# Altium schematic symbol library FullyDigital.SchLib: 55 symbols
Pins are listed as number, name and electrical type; pins without a type are passive.

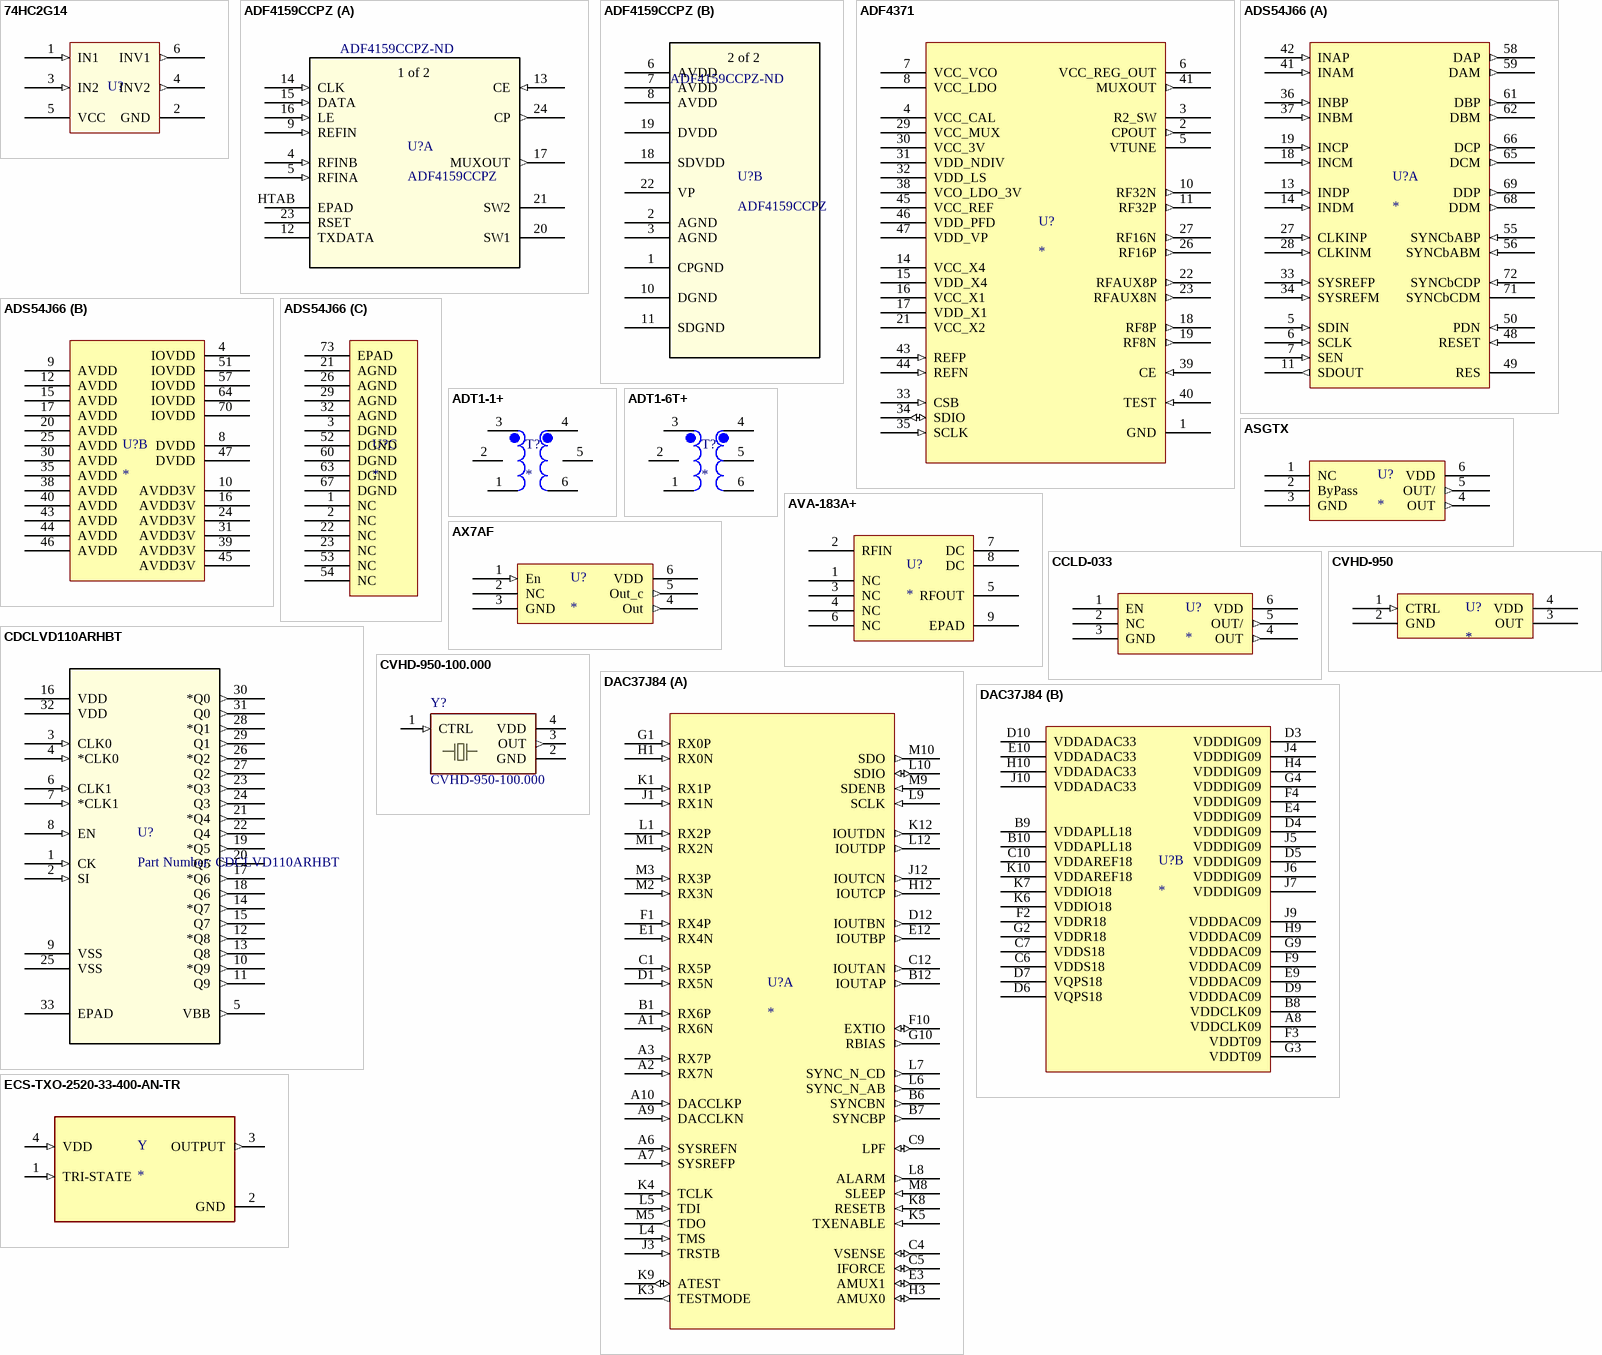
[diagram p0: symbols 74HC2G14 to ECS-TXO-2520-33-400-AN-TR]

## 74HC2G14
designator U?
Inverters Dual inverting Schmitt trigger, 2CH; Part Number: 74HC2G14GV; Manufacturer: Nexperia; Supplier 1: Digikey; Supplier Part Number 1: 1727-74HC2G14GV-Q100HCT-ND
footprint TSOP-6
pins: 1 IN1 (in), 2 GND, 3 IN2 (in), 4 INV2 (out), 5 VCC (power), 6 INV1 (out)

## ADF4159CCPZ
designator U?  Supplier Part Number 1: ADF4159CCPZ-ND
Direct Modulation/Fast Waveform Generating, 13 GHz, Fractional-N Frequency Synthesizer; SourceLibrary: Analog_2015-01-06; Built_By: EMA_UL_Team; Vendor: Analog Devices Inc; Manufacturer_Part_Number: ADF4159CCPZ; Copyright: Copyright (C) 2018 Accelerated Designs. All rights reserved; RefDes: RefDes; Type: DEV; Supplier 1: Digi-Key
footprint CP_24_10_ADI-M (ADF4159CCPZ)
part A pins: 4 RFINB (in), 5 RFINA (in), 9 REFIN (in), 12 TXDATA, 13 CE (in), 14 CLK (in), 15 DATA (in), 16 LE (in), 17 MUXOUT (out), 20 SW1, 21 SW2, 23 RSET, 24 CP (out), HTAB EPAD
part B pins: 1 CPGND (power), 2 AGND (power), 3 AGND (power), 6 AVDD (power), 7 AVDD (power), 8 AVDD (power), 10 DGND (power), 11 SDGND (power), 18 SDVDD (power), 19 DVDD (power), 22 VP (power)
part A text: 1 of 2
part B text: 2 of 2

## ADF4371
designator U?
Microwave  Wideband Synthesizer with Integrated VCO
footprint ADF4371-QFN48 (QFN, 48-Leads, Body 7.00x7.00mm, Pitch 0.50mm, Thermal Pad 6.00x6.00mm, IPC Medium Density); pin to pad 1>1+9+12+13+20+24+25+28+36+37+42+48+49
pins: 1 GND (power), 2 CPOUT (out), 3 R2_SW, 4 VCC_CAL (power), 5 VTUNE, 6 VCC_REG_OUT, 7 VCC_VCO (power), 8 VCC_LDO (power), 10 RF32N (out), 11 RF32P (out), 14 VCC_X4 (power), 15 VDD_X4 (power), 16 VCC_X1 (power), 17 VDD_X1 (power), 18 RF8P (out), 19 RF8N (out), 21 VCC_X2 (power), 22 RFAUX8P (out), 23 RFAUX8N (out), 26 RF16P (out), 27 RF16N (out), 29 VCC_MUX (power), 30 VCC_3V (power), 31 VDD_NDIV (power), 32 VDD_LS (power), 33 CSB (in), 34 SDIO (io), 35 SCLK (in), 38 VCO_LDO_3V (power), 39 CE (in), 40 TEST (in), 41 MUXOUT (out), 43 REFP (in), 44 REFN (in), 45 VCC_REF (power), 46 VDD_PFD (power), 47 VDD_VP (power)

## ADS54J66
designator U?
Quad-Channel, 14-Bit, 500-MSPS ADC with Integrated DDC
footprint ADS54J66-VQFN-72 (QFN, 72-Leads, Body 10.00x10.00mm, Pitch 0.50mm, Thermal Pad 8.50x8.50mm, IPC Medium Density)
part A pins: 5 SDIN (in), 6 SCLK (in), 7 SEN (in), 11 SDOUT (out), 13 INDP (in), 14 INDM (in), 18 INCM (in), 19 INCP (in), 27 CLKINP (in), 28 CLKINM (in), 33 SYSREFP (in), 34 SYSREFM (in), 36 INBP (in), 37 INBM (in), 41 INAM (in), 42 INAP (in), 48 RESET (in), 49 RES, 50 PDN (in), 55 SYNCbABP (in), 56 SYNCbABM (in), 58 DAP (out), 59 DAM (out), 61 DBP (out), 62 DBM (out), 65 DCM (out), 66 DCP (out), 68 DDM (out), 69 DDP (out), 71 SYNCbCDM, 72 SYNCbCDP (in)
part B pins: 4 IOVDD (power), 8 DVDD (power), 9 AVDD (power), 10 AVDD3V (power), 12 AVDD (power), 15 AVDD (power), 16 AVDD3V (power), 17 AVDD (power), 20 AVDD (power), 24 AVDD3V (power), 25 AVDD (power), 30 AVDD (power), 31 AVDD3V (power), 35 AVDD (power), 38 AVDD (power), 39 AVDD3V (power), 40 AVDD (power), 43 AVDD (power), 44 AVDD (power), 45 AVDD3V (power), 46 AVDD (power), 47 DVDD (power), 51 IOVDD (power), 57 IOVDD (power), 64 IOVDD (power), 70 IOVDD (power)
part C pins: 1 NC (power), 2 NC (power), 3 DGND (power), 21 AGND (power), 22 NC (power), 23 NC (power), 26 AGND (power), 29 AGND (power), 32 AGND (power), 52 DGND (power), 53 NC (power), 54 NC (power), 60 DGND (power), 63 DGND (power), 67 DGND (power), 73 EPAD (power)

## ADT1-1+
designator T?
RF Transformer, 50 ohm, 1:1, 0.15-400 MHz, SMT; MP: ADT1-6T+; MF: Mini-Circuits; SnapEDA_Link: https://www.snapeda.com/parts/ADT1-6T+/Mini-Circuits/view-part/948642/?ref=snap; Availability: Unavailable; Price: None; Value: *; Package: None
footprint XFMR_ADT1-1+ (RF Transformer 50ohm 1.0 0.15 to 400 MHz)
pins: 1, 2 NC, 3, 4, 5, 6

## ADT1-6T+
designator T?
RF Transformer, 50 ohm, 1.0: 1, 0.03-125 MHz, SMT; MP: ADT1-6T+; MF: Mini-Circuits; SnapEDA_Link: https://www.snapeda.com/parts/ADT1-6T+/Mini-Circuits/view-part/948642/?ref=snap; Availability: Unavailable; Price: None; Value: *; Package: None
footprint XFMR_ADT1-6T+
pins: 1, 2 NC, 3, 4, 5, 6

## ASGTX
designator U?
Confugurable High Performance SMD TCXO/VCTCXO
footprint ASGTX (6-Leads, Body 9.00x7.00mm, Pitch 2.80mm, IPC Medium Density)
pins: 1 NC, 2 ByPass, 3 GND (power), 4 OUT (out), 5 OUT/ (out), 6 VDD (power)

## AVA-183A+
designator U?
Wideband, Microwave, Monolithic Amplifier, 50Ω, 5 to 18 GHz
footprint AVA-183A+ QFN (QFN66P300X300X89-9N)
pins: 1 NC, 2 RFIN, 3 NC, 4 NC, 5 RFOUT, 6 NC, 7 DC, 8 DC, 9 EPAD

## AX7AF
designator U?
CLEARCLOCK™ | POWER OPTIMIZED 0.12ps 5x7mm XO
footprint AX7XO-8 (AX7 oscilliator, 8-Leads, Body 5.00x7.00mm, IPC Medium Density)
pins: 1 En (in), 2 NC, 3 GND (power), 4 Out (out), 5 Out_c (out), 6 VDD (power)

## CCLD-033
designator U?
CCLD-033 5×7mm SMD / LVDS Clock Oscillator
footprint CCLD-033 (6-Leads, Crystal Oscillator, 7mm x 5mm)
pins: 1 EN, 2 NC, 3 GND (power), 4 OUT (out), 5 OUT/ (out), 6 VDD (power)

## CDCLVD110ARHBT
designator U?, comment Part Number: CDCLVD110ARHBT
CDCLVD110A Programmable Low-Voltage 1:10 LVDS Clock Driver; Manufacturer: Texas Instruments; Built_By: EMA_UL_Team; Manufacturer_Part_Number: CDCLVD110ARHBT; Vendor: Texas Instruments; Copyright: Copyright (C) 2018 Accelerated Designs. All rights reserved; RefDes: RefDes; Type: DEV; Value: Value
footprint QFN33N (QFN, 32-Leads, Body 5.00x5.00mm, Pitch 0.50mm, Thermal Pad 3.15x3.15mm, IPC Medium Density)
pins: 1 CK (in), 2 SI (in), 3 CLK0 (in), 4 *CLK0 (in), 5 VBB (out), 6 CLK1 (in), 7 *CLK1 (in), 8 EN (in), 9 VSS (power), 10 *Q9 (out), 11 Q9 (out), 12 *Q8 (out), 13 Q8 (out), 14 *Q7 (out), 15 Q7 (out), 16 VDD (power), 17 *Q6 (out), 18 Q6 (out), 19 *Q5 (out), 20 Q5 (out), 21 *Q4 (out), 22 Q4 (out), 23 *Q3 (out), 24 Q3 (out), 25 VSS (power), 26 *Q2 (out), 27 Q2 (out), 28 *Q1 (out), 29 Q1 (out), 30 *Q0 (out), 31 Q0 (out), 32 VDD (power), 33 EPAD (power)

## CVHD-950
designator U?
Crystek Ultra-Low Phase Noise / Oscillators
pins: 1 CTRL (in), 2 GND (power), 3 OUT, 4 VDD (power)

## CVHD-950-100.000
designator Y?
Osc Vcxo 100.000mhz Cmos Smd; MF: Crystek; Digi-Key_Part_Number: 744-1213-ND; SnapEDA_Link: https://www.snapeda.com/parts/CVHD-950-100.000/Crystek%20Corporation/view-part/?ref=snap; MP: CVHD-950-100.000; Package: SMD-4 Crystek Crystals; Digi-Key_Purchase_URL: https://www.digikey.com/product-detail/en/crystek-corporation/CVHD-950-100.000/744-1213-ND/1644128?utm_source=snapeda&utm_medium=aggregator&utm_campaign=symbol; Value: *
footprint *OSCSC508P1420X914X530-4N
pins: 1 CTRL (in), 2 GND (power), 3 OUT (out), 4 VDD (power)

## DAC37J84
designator U?
Quad-Channel, 16-Bit, 1.6/2.5 GSPS, Digital-to-Analog Converters with 12.5 Gbps JESD204B Interface
footprint DAC3xJ84-BGA144 (BGA, 144-Leads, Body 10.00x10.00mmx1.94mm, Pitch 0.80mm)
part A pins: A1 RX6N (in), A2 RX7N (in), A3 RX7P (in), A6 SYSREFN (in), A7 SYSREFP (in), A9 DACCLKN (in), A10 DACCLKP (in), B1 RX6P (in), B6 SYNCBN (out), B7 SYNCBP (out), B12 IOUTAP (out), C1 RX5P (in), C4 VSENSE (io), C5 IFORCE (io), C9 LPF (io), C12 IOUTAN (out), D1 RX5N (in), D12 IOUTBN (out), E1 RX4N (in), E3 AMUX1 (io), E12 IOUTBP (out), F1 RX4P (in), F10 EXTIO (io), G1 RX0P (in), G10 RBIAS (out), H1 RX0N (in), H3 AMUX0 (io), H12 IOUTCP (out), J1 RX1N (in), J3 TRSTB (in), J12 IOUTCN (out), K1 RX1P (in), K3 TESTMODE (out), K4 TCLK (in), K5 TXENABLE (in), K8 RESETB (in), K9 ATEST (io), K12 IOUTDN (out), L1 RX2P (in), L4 TMS (in), L5 TDI (in), L6 SYNC_N_AB (out), L7 SYNC_N_CD (out), L8 ALARM (out), L9 SCLK (in), L10 SDIO (io), L12 IOUTDP (out), M1 RX2N (in), M2 RX3N (in), M3 RX3P (in), M5 TDO (out), M8 SLEEP (in), M9 SDENB (in), M10 SDO (out)
part B pins: A8 VDDCLK09 (power), B8 VDDCLK09 (power), B9 VDDAPLL18 (power), B10 VDDAPLL18 (power), C6 VDDS18 (power), C7 VDDS18 (power), C10 VDDAREF18 (power), D3 VDDDIG09 (power), D4 VDDDIG09 (power), D5 VDDDIG09 (power), D6 VQPS18 (power), D7 VQPS18 (power), D9 VDDDAC09 (power), D10 VDDADAC33 (power), E4 VDDDIG09 (power), E9 VDDDAC09 (power), E10 VDDADAC33 (power), F2 VDDR18 (power), F3 VDDT09 (power), F4 VDDDIG09 (power), F9 VDDDAC09 (power), G2 VDDR18 (power), G3 VDDT09 (power), G4 VDDDIG09 (power), G9 VDDDAC09 (power), H4 VDDDIG09 (power), H9 VDDDAC09 (power), H10 VDDADAC33 (power), J4 VDDDIG09 (power), J5 VDDDIG09 (power), J6 VDDDIG09 (power), J7 VDDDIG09 (power), J9 VDDDAC09 (power), J10 VDDADAC33 (power), K6 VDDIO18 (power), K7 VDDIO18 (power), K10 VDDAREF18 (power)

## ECS-TXO-2520-33-400-AN-TR
designator Y
40MHz TCXO HCMOS Oscillator 3.3V Enable/Disable 4-SMD, No Lead; MF: ECS Inc.; MP: ECS-TXO-2520-33-400-AN-TR; Package: SMD-4 ECS International; Value: *; Availability: Unavailable; Price: None; SnapEDA_Link: https://www.snapeda.com/parts/ECS-TXO-2520-33-400-AN-TR/ECS%20Inc./view-part/699443/?ref=snap
footprint OSC_ECS-TXO-2520-33-400-AN-TR (ECS-TXO-2520)
pins: 1 TRI-STATE (in), 2 GND (power), 3 OUTPUT (out), 4 VDD (in)

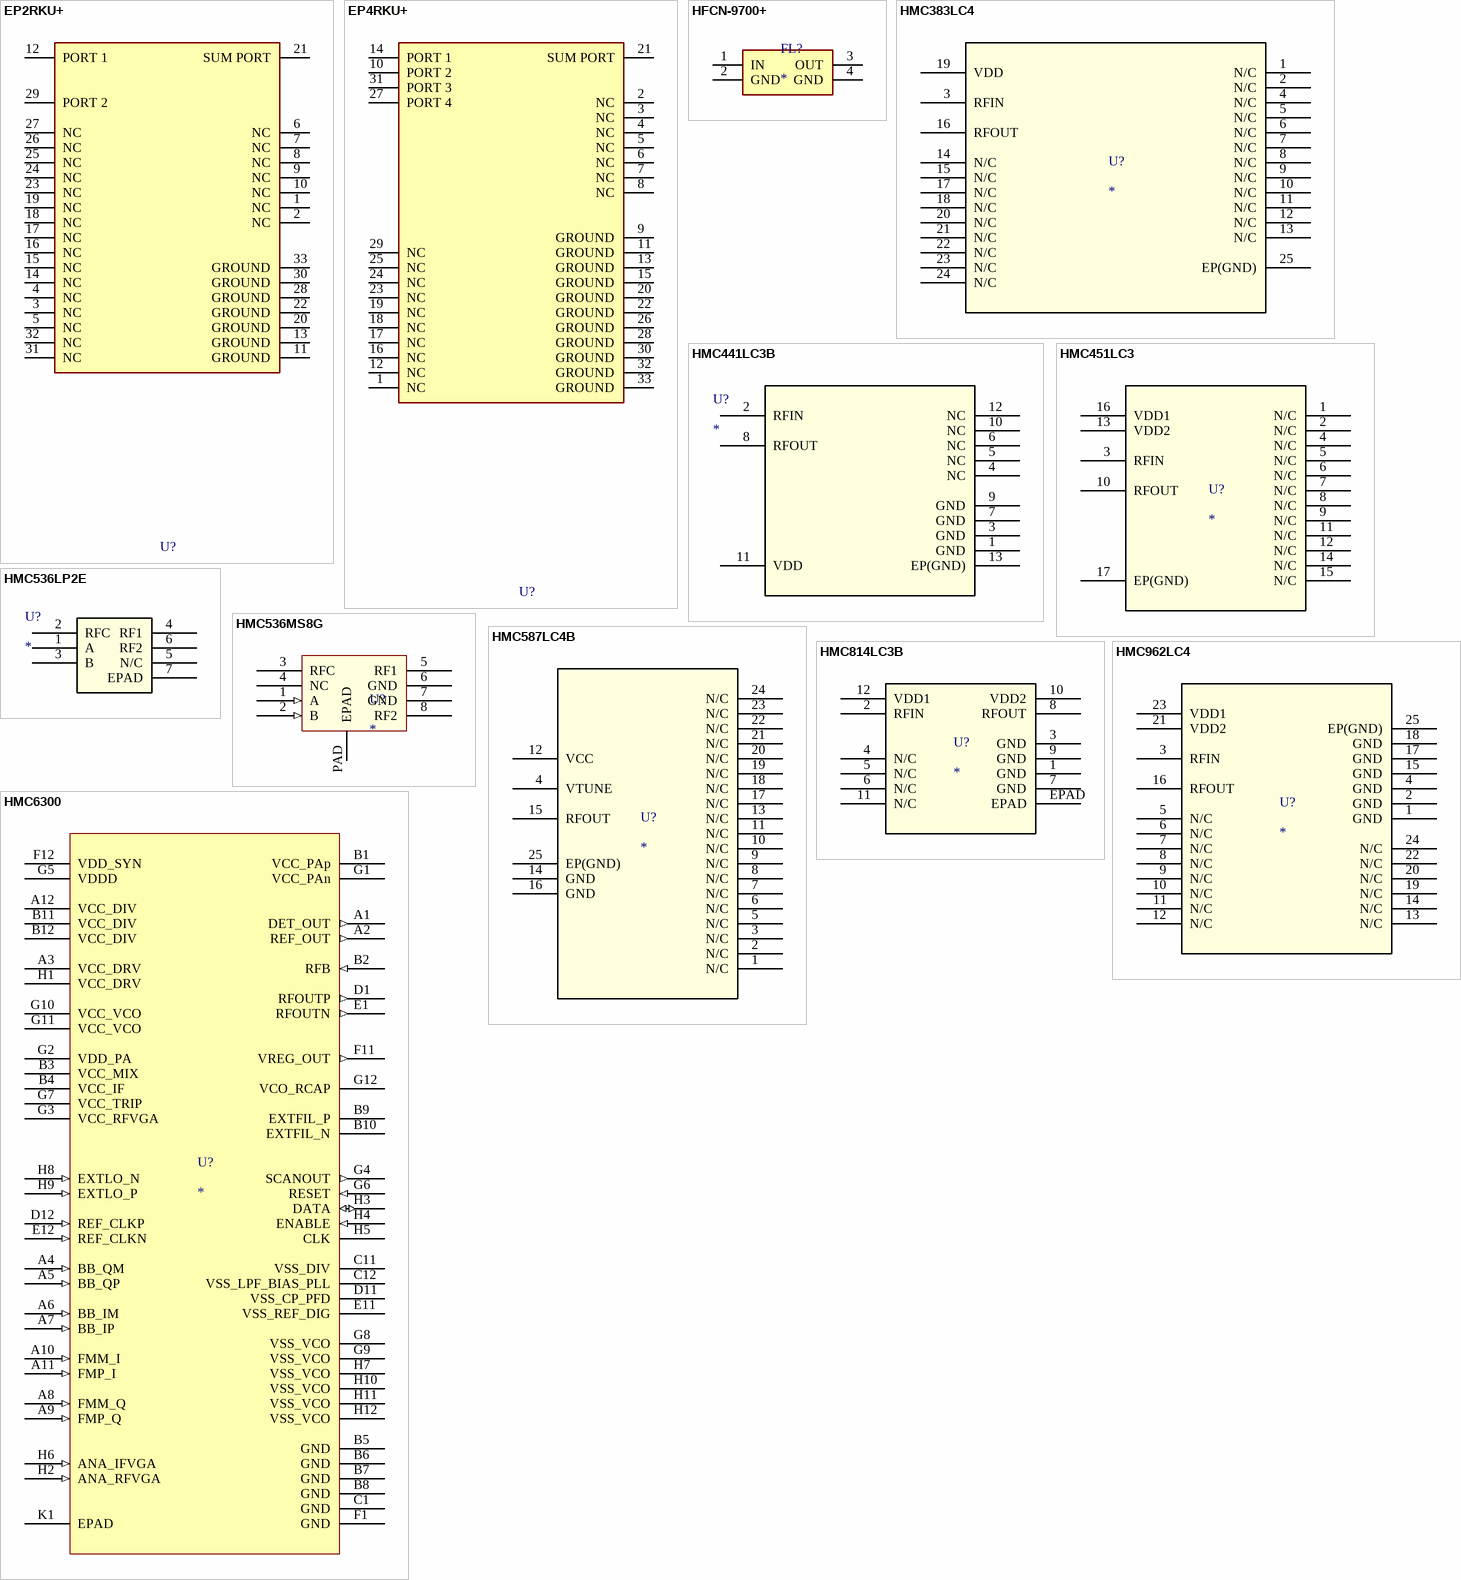
[diagram p1: symbols EP2RKU+ to HMC6300]

## EP2RKU+
designator U?  (value not drawn)
2 Ways MMIC Power Splitter, DC - 18000 MHz, 50Ω; Manufacturer: Mini-Circuits; Part Number: EP2RKU+; Supplier 1: Digikey; Supplier Part Number 1: 3157-EP2RKU+CT-ND
footprint EP2RKU+ (2 Ways MMIC Power Splitter, DC - 18000 MHz, 50?)
pins: 1 NC, 2 NC, 3 NC, 4 NC, 5 NC, 6 NC, 7 NC, 8 NC, 9 NC, 10 NC, 11 GROUND (power), 12 PORT 1, 13 GROUND (power), 14 NC, 15 NC, 16 NC, 17 NC, 18 NC, 19 NC, 20 GROUND (power), 21 SUM PORT, 22 GROUND (power), 23 NC, 24 NC, 25 NC, 26 NC, 27 NC, 28 GROUND, 29 PORT 2, 30 GROUND (power), 31 NC, 32 NC, 33 GROUND (power)

## EP4RKU+
designator U?  (value not drawn)
Power Splitter/Combiner 4 Way-0° 50Ω DC to 18 GHz; Part Number: EP4RKU+; Manufacturer: Mini-Circuits; Supplier 1: Digikey; Supplier Part Number 1: 3157-EP4RKU+CT-ND
footprint EP4RKU+ (DG1677-2)
pins: 1 NC, 2 NC, 3 NC, 4 NC, 5 NC, 6 NC, 7 NC, 8 NC, 9 GROUND (power), 10 PORT 2, 11 GROUND (power), 12 NC, 13 GROUND (power), 14 PORT 1, 15 GROUND (power), 16 NC, 17 NC, 18 NC, 19 NC, 20 GROUND (power), 21 SUM PORT, 22 GROUND (power), 23 NC, 24 NC, 25 NC, 26 GROUND (power), 27 PORT 4, 28 GROUND (power), 29 NC, 30 GROUND (power), 31 PORT 3, 32 GROUND (power), 33 GROUND (power)

## HFCN-9700+
designator FL?
High Pass Filter 50Ω 9700 to 16980 MHz; Manufacturer_Name: Mini-Circuits; Manufacturer_Part_Number: HFCN-9700+; Datasheet Link: https://www.minicircuits.com/pdfs/HFCN-9700+.pdf; Height: 1.0416mm; Mouser Part Number: 139-HFCN-9700; Mouser Price/Stock: https://www.mouser.co.uk/ProductDetail/Mini-Circuits/HFCN-9700%2b?qs=xZ%2FP%252Ba9zWqbwb9Om9u4eNw%3D%3D
footprint HFCN9700 (HFCN9700 4PIN)
pins: 1 IN, 2 GND, 3 OUT, 4 GND

## HMC383LC4
designator U?
GaAs PHEMT MMIC MEDIUM POWER AMPLIFIER, 12 -30 GHz; Value: Value; Type: Type; RefDes: RefDes
footprint HE_24_1 (HMC383LC4 Footprint)
pins: 1 N/C, 2 N/C, 3 RFIN, 4 N/C, 5 N/C, 6 N/C, 7 N/C, 8 N/C, 9 N/C, 10 N/C, 11 N/C, 12 N/C, 13 N/C, 14 N/C, 15 N/C, 16 RFOUT, 17 N/C, 18 N/C, 19 VDD, 20 N/C, 21 N/C, 22 N/C, 23 N/C, 24 N/C, 25 EP(GND)

## HMC441LC3B
designator U?
GaAs pHEMT MMIC MEDIUM POWER AMPLIFIER, 6 - 18 GHz; Copyright: Copyright (C) 2018 Accelerated Designs. All rights reserved; RefDes: RefDes; Type: DEV; Value: Value
footprint PQFN-12 (PQFN, 12-Leads, Body 2.90x2.90mm, Pitch 0.50mm, Thermal Pad 1.50x1.50mm, IPC Medium Density)
pins: 1 GND, 2 RFIN, 3 GND, 4 NC, 5 NC, 6 NC, 7 GND, 8 RFOUT, 9 GND, 10 NC, 11 VDD, 12 NC, 13 EP(GND)

## HMC451LC3
designator U?
GaAs PHEMT MMIC MEDIUM / POWER AMPLIFIER, 5 - 20 GHz; Copyright: Copyright (C) 2018 Accelerated Designs. All rights reserved; RefDes: RefDes; Type: DEV; Value: Value
footprint HMC451_EP_16 (Gaas PHEMT MMIC MEDIUM  POWER AMPLIFIER, 5 - 20 GHz)
pins: 1 N/C, 2 N/C, 3 RFIN, 4 N/C, 5 N/C, 6 N/C, 7 N/C, 8 N/C, 9 N/C, 10 RFOUT, 11 N/C, 12 N/C, 13 VDD2, 14 N/C, 15 N/C, 16 VDD1, 17 EP(GND)

## HMC536LP2E
designator U?
IC RF SWITCH SPDT 6GHZ 6DFN; Manufacturer: Analog Devices; Part Number: HMC536LP2E; Supplier 1: Mouser; Supplier Part Number 1: 584-HMC536LP2E
footprint HMC536LP2E
pins: 1 A, 2 RFC, 3 B, 4 RF1, 5 N/C, 6 RF2, 7 EPAD

## HMC536MS8G
designator U?
RF Switch ICs 3 Watt SPDT T/R Switch SMT, DC - 6 GHz
footprint RH_8_1_ADI
pins: 1 A (in), 2 B (in), 3 RFC, 4 NC, 5 RF1, 6 GND, 7 GND, 8 RF2, PAD EPAD

## HMC587LC4B
designator U?
WIDEBAND MMIC VCO w/ BUFFER / AMPLIFIER, 5 - 10 GHz; Copyright: Copyright (C) 2018 Accelerated Designs. All rights reserved; RefDes: RefDes; Type: DEV
footprint HMC587-PQFN (PQFN, 24-Leads, Body 4.00x4.00mm, Pitch 0.50mm, Thermal Pad 2.50x2.50mm, IPC Medium Density)
pins: 1 N/C, 2 N/C, 3 N/C, 4 VTUNE, 5 N/C, 6 N/C, 7 N/C, 8 N/C, 9 N/C, 10 N/C, 11 N/C, 12 VCC, 13 N/C, 14 GND, 15 RFOUT, 16 GND, 17 N/C, 18 N/C, 19 N/C, 20 N/C, 21 N/C, 22 N/C, 23 N/C, 24 N/C, 25 EP(GND)

## HMC814LC3B
designator U?
SMT GaAs MMIC x2 ACTIVE FREQUENCY / MULTIPLIER, 13 - 24.6 GHz OUTPUT; Manufacturer: Analog Devices; Part Number: HMC814LC3B; RefDes: RefDes; Supplier 1: Mouser; Supplier Part Number 1: 584-HMC814LC3B
footprint HCP_12_1 (HMC814LC3B QFN12); pin to pad EPAD>13
pins: 1 GND, 2 RFIN, 3 GND, 4 N/C, 5 N/C, 6 N/C, 7 GND, 8 RFOUT, 9 GND, 10 VDD2, 11 N/C, 12 VDD1, EPAD

## HMC962LC4
designator U?
GaAs pHEMT MMIC LOW NOISE AMPLIFIER, 7.5 - 26.5 GHz; Copyright: Copyright (C) 2018 Accelerated Designs. All rights reserved; RefDes: RefDes; Type: DEV; Value: Value
footprint HE_24_1 (HMC383LC4 Footprint)
pins: 1 GND, 2 GND, 3 RFIN, 4 GND, 5 N/C, 6 N/C, 7 N/C, 8 N/C, 9 N/C, 10 N/C, 11 N/C, 12 N/C, 13 N/C, 14 N/C, 15 GND, 16 RFOUT, 17 GND, 18 GND, 19 N/C, 20 N/C, 21 VDD2, 22 N/C, 23 VDD1, 24 N/C, 25 EP(GND)

## HMC6300
designator U?
60 GHz Millimeterwave Transmitter, 57GHz to 64 GHz
footprint HMC6300-WLBGA-65 (BGA, 65-Leads, Body 6.00x4.00mmx0.82mm, Pitch 0.50mm)
pins: A1 DET_OUT (out), A2 REF_OUT (out), A3 VCC_DRV (power), A4 BB_QM (in), A5 BB_QP (in), A6 BB_IM (in), A7 BB_IP (in), A8 FMM_Q (in), A9 FMP_Q (in), A10 FMM_I (in), A11 FMP_I (in), A12 VCC_DIV (power), B1 VCC_PAp (power), B2 RFB (in), B3 VCC_MIX (power), B4 VCC_IF (power), B5 GND (power), B6 GND (power), B7 GND (power), B8 GND (power), B9 EXTFIL_P, B10 EXTFIL_N, B11 VCC_DIV (power), B12 VCC_DIV (power), C1 GND (power), C11 VSS_DIV (power), C12 VSS_LPF_BIAS_PLL (power), D1 RFOUTP (out), D11 VSS_CP_PFD (power), D12 REF_CLKP (in), E1 RFOUTN (out), E11 VSS_REF_DIG (power), E12 REF_CLKN (in), F1 GND (power), F11 VREG_OUT (out), F12 VDD_SYN (power), G1 VCC_PAn (power), G2 VDD_PA (power), G3 VCC_RFVGA (power), G4 SCANOUT (out), G5 VDDD (power), G6 RESET (in), G7 VCC_TRIP (power), G8 VSS_VCO (power), G9 VSS_VCO (power), G10 VCC_VCO (power), G11 VCC_VCO (power), G12 VCO_RCAP, H1 VCC_DRV (power), H2 ANA_RFVGA (in), H3 DATA (io), H4 ENABLE (in), H5 CLK, H6 ANA_IFVGA (in), H7 VSS_VCO (power), H8 EXTLO_N (in), H9 EXTLO_P (in), H10 VSS_VCO (power), H11 VSS_VCO (power), H12 VSS_VCO (power), K1 EPAD (power)

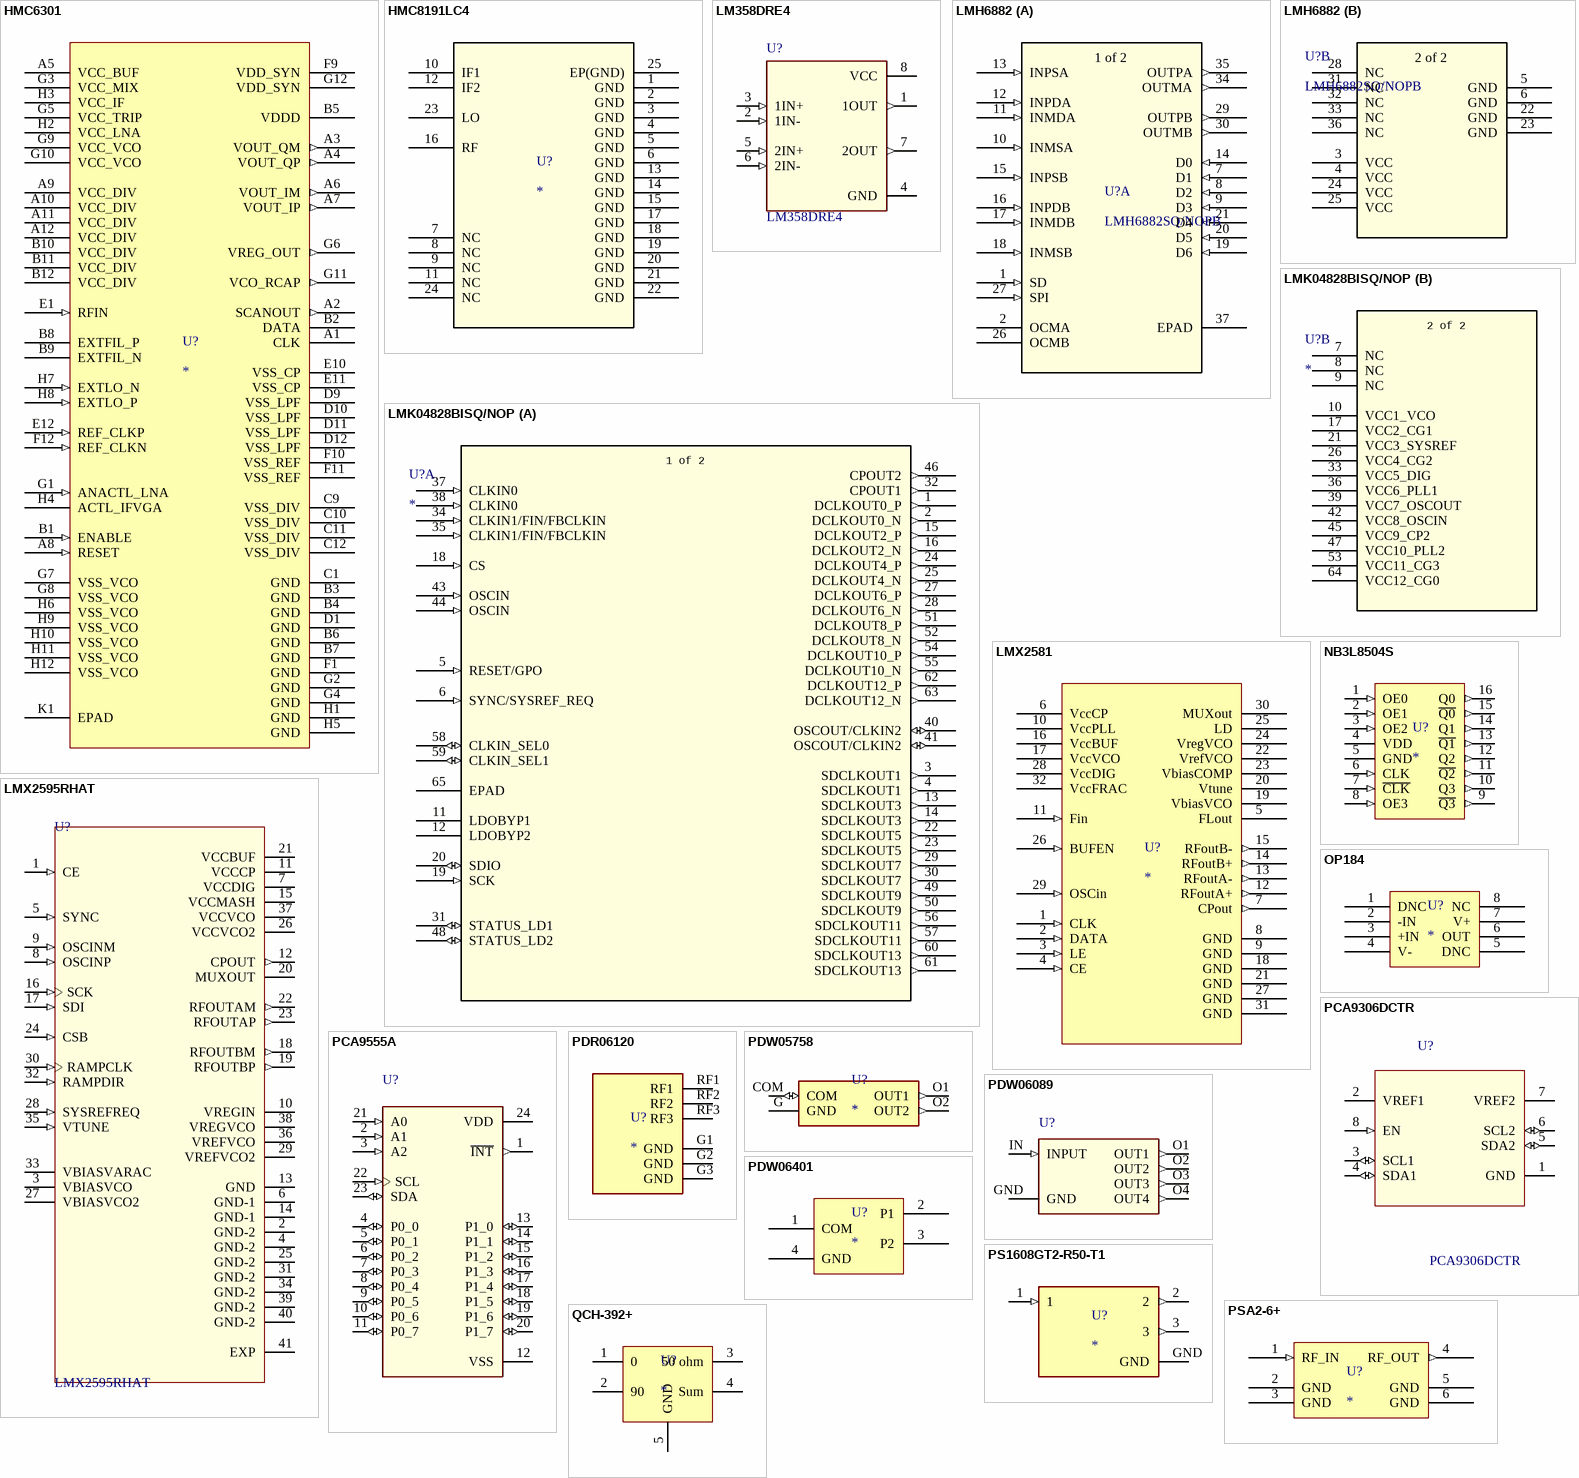
[diagram p2: symbols HMC6301 to QCH-392+]

## HMC6301
designator U?
Millimeterwave Receiver, 57GHz to 64 GHz
footprint HMC6301-WLBGA-75 (BGA, 75-Leads, Body 6.00x4.00mmx0.82mm, Pitch 0.50mm)
pins: A1 CLK, A2 SCANOUT (out), A3 VOUT_QM (out), A4 VOUT_QP (out), A5 VCC_BUF (power), A6 VOUT_IM (out), A7 VOUT_IP (out), A8 RESET (in), A9 VCC_DIV (power), A10 VCC_DIV (power), A11 VCC_DIV (power), A12 VCC_DIV (power), B1 ENABLE (in), B2 DATA, B3 GND (power), B4 GND (power), B5 VDDD (power), B6 GND (power), B7 GND (power), B8 EXTFIL_P, B9 EXTFIL_N, B10 VCC_DIV (power), B11 VCC_DIV (power), B12 VCC_DIV (power), C1 GND (power), C9 VSS_DIV (power), C10 VSS_DIV (power), C11 VSS_DIV (power), C12 VSS_DIV (power), D1 GND (power), D9 VSS_LPF (power), D10 VSS_LPF (power), D11 VSS_LPF (power), D12 VSS_LPF (power), E1 RFIN (in), E10 VSS_CP (power), E11 VSS_CP (power), E12 REF_CLKP (in), F1 GND (power), F9 VDD_SYN (power), F10 VSS_REF (power), F11 VSS_REF (power), F12 REF_CLKN (in), G1 ANACTL_LNA (in), G2 GND (power), G3 VCC_MIX (power), G4 GND (power), G5 VCC_TRIP (power), G6 VREG_OUT (out), G7 VSS_VCO (power), G8 VSS_VCO (power), G9 VCC_VCO (power), G10 VCC_VCO (power), G11 VCO_RCAP (out), G12 VDD_SYN (power), H1 GND (power), H2 VCC_LNA (power), H3 VCC_IF (power), H4 ACTL_IFVGA (power), H5 GND (power), H6 VSS_VCO (power), H7 EXTLO_N (in), H8 EXTLO_P (in), H9 VSS_VCO (power), H10 VSS_VCO (power), H11 VSS_VCO (power), H12 VSS_VCO (power), K1 EPAD (power)

## HMC8191LC4
designator U?
6 GHz to 26.5 GHz, / Wideband I/Q Mixer; Part Number: HMC8191LC4; Manufacturer: Analog Devices; RefDes: RefDes; Supplier 1: Mouser; Supplier Part Number 1: 584-HMC8191LC4
footprint HMC8191_E-24-1
pins: 1 GND, 2 GND, 3 GND, 4 GND, 5 GND, 6 GND, 7 NC, 8 NC, 9 NC, 10 IF1, 11 NC, 12 IF2, 13 GND, 14 GND, 15 GND, 16 RF, 17 GND, 18 GND, 19 GND, 20 GND, 21 GND, 22 GND, 23 LO, 24 NC, 25 EP(GND)

## LM358DRE4
designator U?
General Purpose Amplifier 2 Circuit 8-SOIC; MF: Texas Instruments; SnapEDA_Link: https://www.snapeda.com/parts/LM358DRE4/Texas%20Instruments/view-part/544216/?ref=snap; Digi-Key_Purchase_URL: https://www.digikey.com/product-detail/en/texas-instruments/LM358DRE4/296-35907-1-ND/4135077?utm_source=snapeda&utm_medium=aggregator&utm_campaign=symbol; Digi-Key_Part_Number: 296-35907-1-ND; MP: LM358DRE4; Package: SOIC-8 Texas Instruments; Value: *
footprint SOIC-8N (LM358)
pins: 1 1OUT (out), 2 1IN- (in), 3 1IN+ (in), 4 GND (power), 5 2IN+ (in), 6 2IN- (in), 7 2OUT (out), 8 VCC (power)

## LMH6882
designator U?, comment LMH6882SQ/NOPB
LMH6882 DC to 2.4-GHz, High-Linearity, Dual, Programmable Differential Amplifier; SourceLibrary: TI_2017-02-16; Built_By: EMA_UL_Team; Vendor: Texas Instruments; Manufacturer_Part_Number: LMH6882SQ/NOPB; Copyright: Copyright (C) 2018 Accelerated Designs. All rights reserved; RefDes: RefDes; Type: DEV
footprint NJK36_TEX
part A pins: 1 SD (in), 2 OCMA, 7 D1 (in), 8 D2 (in), 9 D3 (in), 10 INMSA (in), 11 INMDA (in), 12 INPDA (in), 13 INPSA (in), 14 D0 (in), 15 INPSB (in), 16 INPDB (in), 17 INMDB (in), 18 INMSB (in), 19 D6 (in), 20 D5 (in), 21 D4 (in), 26 OCMB, 27 SPI (in), 29 OUTPB (out), 30 OUTMB (out), 34 OUTMA (out), 35 OUTPA (out), 37 EPAD
part B pins: 3 VCC (power), 4 VCC (power), 5 GND (power), 6 GND (power), 22 GND (power), 23 GND (power), 24 VCC (power), 25 VCC (power), 28 NC, 31 NC, 32 NC, 33 NC, 36 NC
part A text: 1 of 2
part B text: 2 of 2

## LMK04828BISQ/NOP
designator U?
Ultra Low-Noise JESD204B Compliant Clock Jitter Cleaner with Dual Loop PLLs; Manufacturer_Part_Number: LMK04828BISQ/NOPB; Built_By: EMA_UL_Team; Vendor: Texas Instruments; RefDes: RefDes; Type: DEV; Value: Value
footprint NKD64
part A pins: 1 DCLKOUT0_P (out), 2 DCLKOUT0_N (out), 3 SDCLKOUT1 (out), 4 SDCLKOUT1 (out), 5 RESET/GPO (in), 6 SYNC/SYSREF_REQ (in), 11 LDOBYP1, 12 LDOBYP2, 13 SDCLKOUT3 (out), 14 SDCLKOUT3 (out), 15 DCLKOUT2_P (out), 16 DCLKOUT2_N (out), 18 CS (in), 19 SCK (in), 20 SDIO (io), 22 SDCLKOUT5 (out), 23 SDCLKOUT5 (out), 24 DCLKOUT4_P (out), 25 DCLKOUT4_N (out), 27 DCLKOUT6_P (out), 28 DCLKOUT6_N (out), 29 SDCLKOUT7 (out), 30 SDCLKOUT7 (out), 31 STATUS_LD1 (io), 32 CPOUT1 (out), 34 CLKIN1/FIN/FBCLKIN (in), 35 CLKIN1/FIN/FBCLKIN (in), 37 CLKIN0 (in), 38 CLKIN0 (in), 40 OSCOUT/CLKIN2 (io), 41 OSCOUT/CLKIN2 (io), 43 OSCIN (in), 44 OSCIN (in), 46 CPOUT2 (out), 48 STATUS_LD2 (io), 49 SDCLKOUT9 (out), 50 SDCLKOUT9 (out), 51 DCLKOUT8_P (out), 52 DCLKOUT8_N (out), 54 DCLKOUT10_P (out), 55 DCLKOUT10_N (out), 56 SDCLKOUT11 (out), 57 SDCLKOUT11 (out), 58 CLKIN_SEL0 (io), 59 CLKIN_SEL1 (io), 60 SDCLKOUT13 (out), 61 SDCLKOUT13 (out), 62 DCLKOUT12_P (out), 63 DCLKOUT12_N (out), 65 EPAD
part B pins: 7 NC, 8 NC, 9 NC, 10 VCC1_VCO (power), 17 VCC2_CG1 (power), 21 VCC3_SYSREF (power), 26 VCC4_CG2 (power), 33 VCC5_DIG (power), 36 VCC6_PLL1 (power), 39 VCC7_OSCOUT (power), 42 VCC8_OSCIN (power), 45 VCC9_CP2 (power), 47 VCC10_PLL2 (power), 53 VCC11_CG3 (power), 64 VCC12_CG0 (power)
part A text: 1 of 2
part B text: 2 of 2

## LMX2581
designator U?
Wideband Frequency Synthesizer with Integrated VCO
footprint LMX2581 (PQFN, 32-Leads, Body 5.00x5.00mm, Pitch 0.50mm, Thermal Pad 3.10x3.10mm, IPC Medium Density)
pins: 1 CLK (in), 2 DATA (in), 3 LE (in), 4 CE (in), 5 FLout, 6 VccCP (power), 7 CPout (out), 8 GND (power), 9 GND (power), 10 VccPLL (power), 11 Fin (in), 12 RFoutA+ (out), 13 RFoutA- (out), 14 RFoutB+ (out), 15 RFoutB- (out), 16 VccBUF (power), 17 VccVCO (power), 18 GND (power), 19 VbiasVCO, 20 Vtune, 21 GND (power), 22 VrefVCO, 23 VbiasCOMP, 24 VregVCO, 25 LD, 26 BUFEN (in), 27 GND (power), 28 VccDIG (power), 29 OSCin (in), 30 MUXout, 31 GND (power), 32 VccFRAC (power)

## LMX2595RHAT
designator U?
10 MHz - 19 GHz Wideband RF Synthesizer with Phase Synchronization and JESD204B support 40-VQFN -40 to 85; MF: Texas Instruments; Digi-Key_Part_Number: 296-47001-1-ND; MP: LMX2595RHAT; SnapEDA_Link: https://www.snapeda.com/parts/LMX2595RHAT/Texas%20Instruments/view-part/?ref=snap; Package: VQFN-40 Texas Instruments; Digi-Key_Purchase_URL: https://www.digikey.com/product-detail/en/texas-instruments/LMX2595RHAT/296-47001-1-ND/7427008?utm_source=snapeda&utm_medium=aggregator&utm_campaign=symbol; Value: *
footprint LMX2595RHAT (LMX2595 RF Synthesizer)
pins: 1 CE (in), 2 GND-2 (power), 3 VBIASVCO, 4 GND-2 (power), 5 SYNC (in), 6 GND-1 (power), 7 VCCDIG (power), 8 OSCINP (in), 9 OSCINM (in), 10 VREGIN, 11 VCCCP (power), 12 CPOUT (out), 13 GND (power), 14 GND-1 (power), 15 VCCMASH (power), 16 SCK (in), 17 SDI (in), 18 RFOUTBM (out), 19 RFOUTBP (out), 20 MUXOUT, 21 VCCBUF (power), 22 RFOUTAM (out), 23 RFOUTAP (out), 24 CSB (in), 25 GND-2 (power), 26 VCCVCO2 (power), 27 VBIASVCO2, 28 SYSREFREQ (in), 29 VREFVCO2, 30 RAMPCLK (in), 31 GND-2 (power), 32 RAMPDIR (in), 33 VBIASVARAC, 34 GND-2 (power), 35 VTUNE (in), 36 VREFVCO, 37 VCCVCO (power), 38 VREGVCO, 39 GND-2 (power), 40 GND-2 (power), 41 EXP (power)

## NB3L8504S
designator U?
2.5 V / 3.3 V 1:4 Differential / Input to LVDS Fanout Buffer / / Translator
footprint TSOP16 (TSOP, 16-Leads, Body 5.00x4.40mm, Pitch 0.65mm, IPC Medium Density)
pins: 1 OE0 (in), 2 OE1 (in), 3 OE2 (in), 4 VDD (power), 5 GND (power), 6 CLK (in), 7 ~{CLK} (in), 8 OE3 (in), 9 ~{Q3} (out), 10 Q3 (out), 11 ~{Q2} (out), 12 Q2 (out), 13 ~{Q1} (out), 14 Q1 (out), 15 ~{Q0} (out), 16 Q0 (out)

## OP184
designator U?
Precision Rail-to-Rail / Input and Output Operational Amplifier
footprint OP184-SOIC-8N (SOIC, 8-Leads, Body 4.90x3.90mm, Pitch 1.27mm, IPC Medium Density)
pins: 1 DNC, 2 -IN, 3 +IN, 4 V-, 5 DNC, 6 OUT, 7 V+, 8 NC

## PCA9306DCTR
designator U?
Voltage Level Translator Bidirectional 1 Circuit 2 Channel SM8 _SSOP_; MF: Texas Instruments; Availability: Unavailable; SnapEDA_Link: https://www.snapeda.com/parts/PCA9306DCTR/Texas%20Instruments/view-part/39062/?ref=snap; Price: None; Package: LSSOP-8 Texas Instruments; MP: PCA9306DCTR; Value: *
footprint SOP8N (PCA9306DCTR)
pins: 1 GND, 2 VREF1 (power), 3 SCL1 (io), 4 SDA1 (io), 5 SDA2 (io), 6 SCL2 (io), 7 VREF2 (power), 8 EN (in)

## PCA9555A
designator U?
Low-voltage 16-bit I2C-bus I/O port with interrupt and / weak pull-up; MP: PCA9555APW,118; MF: NXP USA; Package: TSSOP-24 NXP Semiconductors; Digi-Key_Purchase_URL: https://www.digikey.com/product-detail/en/nxp-usa-inc/PCA9555APW,118/568-9919-1-ND/3677045?utm_source=snapeda&utm_medium=aggregator&utm_campaign=symbol; Digi-Key_Part_Number: 568-9919-1-ND; SnapEDA_Link: https://www.snapeda.com/parts/PCA9555APW%2C118/NXP%20USA%20Inc./view-part/482314/?ref=snap; Value: *
footprint PQFN25N (PQFN, 24-Leads, Body 4.00x4.00mm, Pitch 0.50mm, Thermal Pad 1.89x1.89mm, IPC Medium Density)
pins: 1 ~{INT} (out), 2 A1 (in), 3 A2 (in), 4 P0_0 (io), 5 P0_1 (io), 6 P0_2 (io), 7 P0_3 (io), 8 P0_4 (io), 9 P0_5 (io), 10 P0_6 (io), 11 P0_7 (io), 12 VSS (power), 13 P1_0 (io), 14 P1_1 (io), 15 P1_2 (io), 16 P1_3 (io), 17 P1_4 (io), 18 P1_5 (io), 19 P1_6 (io), 20 P1_7 (io), 21 A0 (in), 22 SCL (in), 23 SDA (io), 24 VDD (power)

## PDR06120
designator U?
RF Power Divider 0Hz ~ 40GHz 20dB Return Loss Module; MF: Knowles Dielectric Labs; MP: PDR06120; Check_prices: https://www.snapeda.com/parts/PDR06120/Knowles%20Dielectric%20Labs/view-part/6388534/?ref=eda; SnapEDA_Link: https://www.snapeda.com/parts/PDR06120/Knowles%20Dielectric%20Labs/view-part/6388534/?ref=snap; Availability: In Stock; Price: None; Value: *; Package: Module Knowles Dielectric Labs; Purchase-URL: https://pricing.snapeda.com/search/part/PDR06120/?ref=eda
footprint MODULE_PDR06120
pins: G1 GND (power), G2 GND (power), G3 GND (power), RF1, RF2, RF3

## PDW05758
designator U?
RF Power Divider 6GHz ~ 18GHz Isolation (Typ) 20dB, 20dB Return Loss, 3Â° Imbalance (Max) Module; MP: PDW05758; MF: Knowles Dielectric; Availability: Warning; Purchase-URL: https://pricing.snapeda.com/search/part/PDW05758/?ref=eda; SnapEDA_Link: https://www.snapeda.com/parts/PDW05758/Knowles%20Dielectric%20Labs/view-part/2781886/?ref=snap; Price: None; Package: Knowles Dielectric; Value: *; Check_prices: https://www.snapeda.com/parts/PDW05758/Knowles%20Dielectric%20Labs/view-part/2781886/?ref=eda
footprint CONV_PDW05758 (6 to 18 GHz Wilkinson  Power Divider)
pins: COM (io), G GND, O1 OUT1 (out), O2 OUT2 (out)

## PDW06089
designator U?  (value not drawn)
6-18ghz 4-Way Wilkinson Pwr Di; MF: Knowles Dielectric; SnapEDA_Link: https://www.snapeda.com/parts/PDW06089/Knowles%20Dielectric%20Labs/view-part/?ref=snap; Availability: Unavailable; Package: Module Knowles; MP: PDW06089; Price: None; Value: *
footprint PDW06089 (6-18GHz 4-way Wilkinson Power Divider)
pins: GND, IN INPUT (in), O1 OUT1 (out), O2 OUT2 (out), O3 OUT3 (out), O4 OUT4 (out)

## PDW06401
designator U?
16GHz 2-way Wilkinson Power Divider
footprint PDW06401 (PDW06401 Wilkinson Power Divider Footprint)
pins: 1 COM, 2 P1, 3 P2, 4 GND

## PS1608GT2-R50-T1
designator U?
RF Power Divider 0 Hz ~ 20 GHz - 0603 (1608 Metric); MP: PS1608GT2-R50-T1; MF: Susumu; Availability: In Stock; Package: 0603 Susumu; Check_prices: https://www.snapeda.com/parts/PS1608GT2-R50-T1/Susumu/view-part/?ref=eda; Price: None; SnapEDA_Link: https://www.snapeda.com/parts/PS1608GT2-R50-T1/Susumu/view-part/?ref=snap; Value: *; Purchase-URL: https://pricing.snapeda.com/search/part/PS1608GT2-R50-T1/?ref=eda
footprint CONV_PS1608GT2-R50-T1
pins: 1 (in), 2 (out), 3 (out), GND (power)

## PSA2-6+
designator U?
SMT MMIC, Linear, Gain Block Amplifier, DC to 7000 MHz, 50Ω, SOT-363 Style Package; Part Number: PSA2-6+; Manufacturer: Mini-Circuits; Supplier 1: Mouser; Supplier Part Number 1: 139-PSA2-6+
footprint PSA2-6+ SOT-363 (SMT MMIC, Linear, Gain Block Amplifier, DC to 7000 MHz, 50Ω, SOT-363 Style Package)
pins: 1 RF_IN (in), 2 GND, 3 GND, 4 RF_OUT (out), 5 GND, 6 GND

## QCH-392+
designator U?
2 Way-90° Power Splitter
footprint QCH-392+ (2 Way-90° Power Splitter)
pins: 1 0, 2 90, 3 50 ohm, 4 Sum, 5 GND

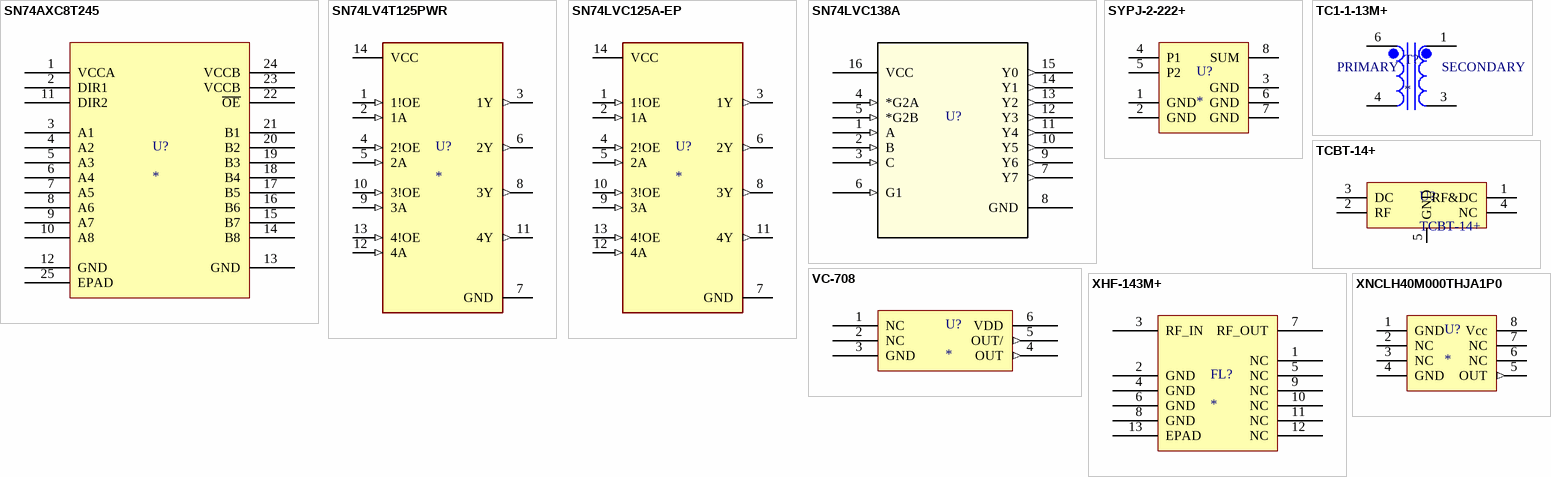
[diagram p3: symbols SN74AXC8T245 to XNCLH40M000THJA1P0]

## SN74AXC8T245
designator U?
SN74AXC8T245 8-Bit Dual-Supply Bus Transceiver With Configurable Voltage Translation / and Tri-State Outputs
footprint RHL0024A (SN74AXC8T245 8-Bit Dual-Supply Bus Transceiver With Configurable Voltage Translation  and Tri-State Outputs)
pins: 1 VCCA, 2 DIR1, 3 A1, 4 A2, 5 A3, 6 A4, 7 A5, 8 A6, 9 A7, 10 A8, 11 DIR2, 12 GND, 13 GND, 14 B8, 15 B7, 16 B6, 17 B5, 18 B4, 19 B3, 20 B2, 21 B1, 22 ~{OE}, 23 VCCB, 24 VCCB, 25 EPAD

## SN74LV4T125PWR
designator U?
Buffer, Non-Inverting 4 Element 1 Bit per Element 3-State Output 14-TSSOP; MP: SN74LV4T125RGYR; Price: None; Package: None; Availability: Unavailable; Value: *
footprint SN74LV4T125PWR (SOP65P640X120-14N)
pins: 1 1!OE (in), 2 1A (in), 3 1Y (out), 4 2!OE (in), 5 2A (in), 6 2Y (out), 7 GND (power), 8 3Y (out), 9 3A (in), 10 3!OE (in), 11 4Y (out), 12 4A (in), 13 4!OE (in), 14 VCC (power)

## SN74LVC125A-EP
designator U?
Enhanced product 4-ch, 1.65-V to 3.6-V buffers with 3-state outputs 14-TSSOP; MP: SN74LV4T125RGYR; Price: None; Package: None; Availability: Unavailable; Value: *
footprint SN74LVC125AIPWREP (TSSOP – PW)
pins: 1 1!OE (in), 2 1A (in), 3 1Y (out), 4 2!OE (in), 5 2A (in), 6 2Y (out), 7 GND (power), 8 3Y (out), 9 3A (in), 10 3!OE (in), 11 4Y (out), 12 4A (in), 13 4!OE (in), 14 VCC (power)

## SN74LVC138A
designator U?
SN74LVC138A 3-Line to 8-Line Decoders Demultiplexers; Manufacturer: Texas Instruments; Manufacturer_Part_Number: SN74HC138PWR; Built_By: EMA_UL_Team; Vendor: Texas Instruments; Copyright: Copyright (C) 2018 Accelerated Designs. All rights reserved; RefDes: RefDes; Type: DEV; Value: Value
footprint TSOP16 (TSOP, 16-Leads, Body 5.00x4.40mm, Pitch 0.65mm, IPC Medium Density)
pins: 1 A (in), 2 B (in), 3 C (in), 4 *G2A (in), 5 *G2B (in), 6 G1 (in), 7 Y7 (out), 8 GND (power), 9 Y6 (out), 10 Y5 (out), 11 Y4 (out), 12 Y3 (out), 13 Y2 (out), 14 Y1 (out), 15 Y0 (out), 16 VCC (power)

## SYPJ-2-222+
designator U?
Power Splitter/Combiner 2 Way-180° 50Ω 500 to 2250 MHz
footprint SYPJ-2-222+ (Power Splitter/Combiner, 2 Way-180° 50O 500 to 2250 MHz)
pins: 1 GND, 2 GND, 3 GND, 4 P1, 5 P2, 6 GND, 7 GND, 8 SUM

## TC1-1-13M+
designator T?
Transformer 50Ω 4.5 to 3000 MHz; MF: Mini-Circuits; MP: TC1-1-13M+; Price: None; Package: None; SnapEDA_Link: https://www.snapeda.com/parts/TC1-1-13M%2B/Mini-Circuits/view-part/105812/?ref=snap; Value: *; Availability: Unavailable
footprint XFMR_TC1-1-13M+
pins: 1, 3, 4, 6
text: PRIMARY; SECONDARY

## TCBT-14+
designator U?
Bias Tee 50Ω Wideband 10 MHz to 10 GHz
footprint TCBT-14+ (TCBT-14+, 5-Leads, Body 3.81x3.81mm)
pins: 1 RF&DC, 2 RF, 3 DC, 4 NC, 5 GND

## VC-708
designator U?
Quartz stabilized, low phase noise, di! erential output oscillator
footprint VC-708 (6-Leads, Crystal Oscillator, 7mm x 5mm)
pins: 1 NC, 2 NC, 3 GND (power), 4 OUT (out), 5 OUT/ (out), 6 VDD (power)

## XHF-143M+
designator FL?
Reflectionless High Pass Filter 50Ω 13900 to19000 MHz
footprint PQFN12-XHF-143M (PQFN, 12-Leads, Body 3.00x3.00mm, Pitch 0.51mm, Thermal Pad 1.25x1.25mm, IPC Medium Density)
pins: 1 NC, 2 GND, 3 RF_IN, 4 GND, 5 NC, 6 GND, 7 RF_OUT, 8 GND, 9 NC, 10 NC, 11 NC, 12 NC, 13 EPAD

## XNCLH40M000THJA1P0
designator U?
Frequency: 40.000000MHz Size: 5.0 x 3.2mm), Frequency Tolerance ±0.5ppm, Temperature ±0.2ppm
footprint OSC_XNCLH40M000THJA1P0
pins: 1 GND (power), 2 NC, 3 NC, 4 GND (power), 5 OUT (out), 6 NC, 7 NC, 8 Vcc (power)